# Altium footprint library AFA07S12FCA00.PcbLib: 1 footprints
Each footprint in its own frame and in the unit in brackets; x right, y up, seen from the top. Pads: shape width x height; smd on the part's side, far side on the other; paste and mask are expansions set on the pad; w line width, h text height; cw(c..) or ccw(c..) is an arc to the next point about the centre after c.
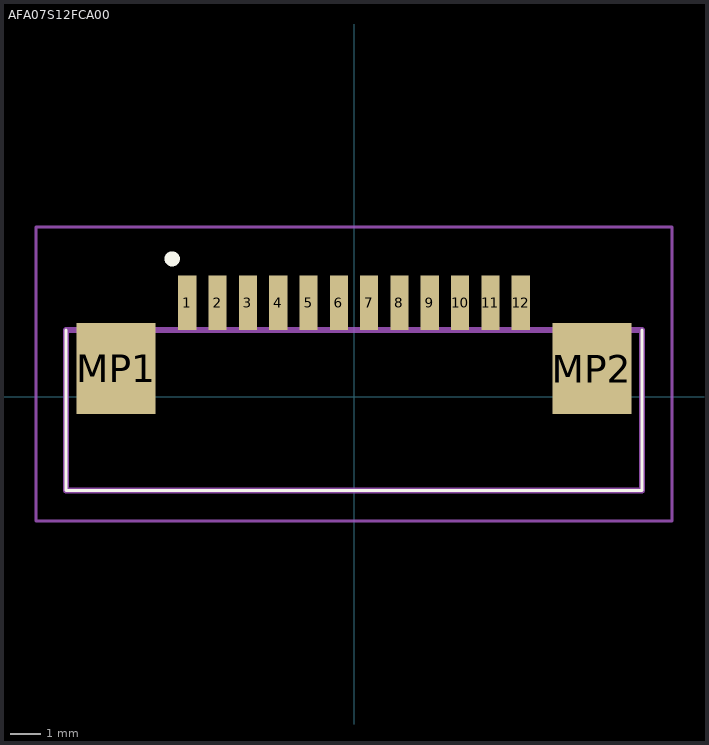
[diagram p0: the footprint, top view; thin cyan lines are the x and y axes]

## AFA07S12FCA00 [mm]
pads (14):
  rect 0.6x1.8 smd: 1(-5.5,3.1) 2(-4.5,3.1) 3(-3.5,3.1) 4(-2.5,3.1) 5(-1.5,3.1) 6(-0.5,3.1) 7(0.5,3.1) 8(1.5,3.1) 9(2.5,3.1) 10(3.5,3.1) 11(4.5,3.1) 12(5.5,3.1)
  rect 2.6x3 smd: MP1(-7.85,0.93) MP2(7.85,0.93)
Top Overlay:
  lines w0.1: -9.5,2.2 -9.5,-3.1 9.5,-3.1 9.5,2.2
  lines w0.4: -6,4.5 -6,4.5 ; -6,4.5 ccw(c-6,4.55) -6,4.6 ; -6,4.5 cw(c-6,4.55) -6,4.6 ; -6,4.6 -6,4.6
Mechanical 15:
  lines w0.2: -9.5,-3.1 9.5,-3.1 9.5,2.2 -9.5,2.2 -9.5,-3.1
Mechanical 20:
  lines w0.1: -10.5,-4.1 10.5,-4.1 10.5,5.6 -10.5,5.6 -10.5,-4.1